# EAGLE library part 8OUT (library e-freebus)
Freebus 8-fach Aktor
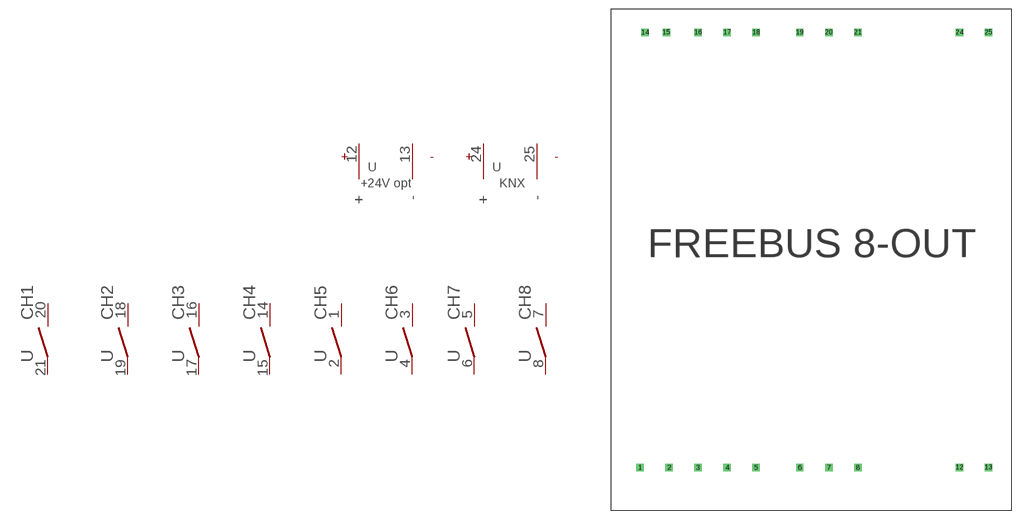
[diagram p0: symbol with the pads of 8OUT; footprint 8OUT]

Designator prefix -; gates CH1=SCHLIESSER CH2=SCHLIESSER CH3=SCHLIESSER CH4=SCHLIESSER CH5=SCHLIESSER CH6=SCHLIESSER CH7=SCHLIESSER CH8=SCHLIESSER KNX=BUS EXTPOWER=EXTPOW

## 8OUT  [8OUT]
1  CH5:1  pas
2  CH5:2  pas
3  CH6:1  pas
4  CH6:2  pas
5  CH7:1  pas
6  CH7:2  pas
7  CH8:1  pas
8  CH8:2  pas
12  EXTPOWER:+  pwr
13  EXTPOWER:-  pwr
14  CH4:1  pas
15  CH4:2  pas
16  CH3:1  pas
17  CH3:2  pas
18  CH2:1  pas
19  CH2:2  pas
20  CH1:1  pas
21  CH1:2  pas
24  KNX:+  in
25  KNX:-  in

## Footprint 8OUT (pad centres in mm)
drill 0.8 square: 1 5.08,7.62; 2 10.16,7.62; 3 15.24,7.62; 4 20.32,7.62; 5 25.4,7.62; 6 33.02,7.62; 7 38.1,7.62; 8 43.18,7.62; 12 60.96,7.62; 13 66.04,7.62; 14 5.95,83.81; 15 9.66,83.82; 16 15.24,83.82; 17 20.32,83.82; 18 25.4,83.82; 19 33.02,83.82; 20 38.1,83.82; 21 43.18,83.82; 24 60.96,83.82; 25 66.04,83.82